# EAGLE library part DUMMY-SOIC16 (library all-chips)
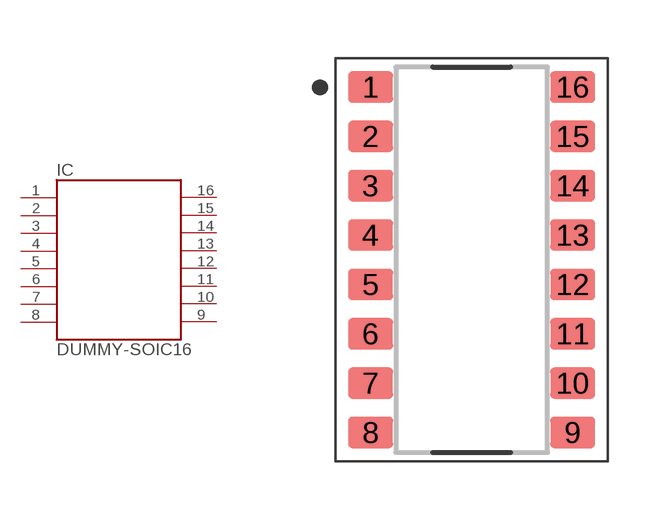
[diagram p1: symbol with the pads of SOIC16_3.90X9.90MM; footprint SOIC16_3.90X9.90MM]

Designator prefix IC

## DUMMY-SOIC16  [SOIC16_3.90X9.90MM]
1  1  pas
2  2  pas
3  3  pas
4  4  pas
5  5  pas
6  6  pas
7  7  pas
8  8  pas
9  9  pas
10  10  pas
11  11  pas
12  12  pas
13  13  pas
14  14  pas
15  15  pas
16  16  pas

## Footprint SOIC16_3.90X9.90MM (pad centres in mm)
https://www.analog.com/media/en/package-pcb-resources/package/pkg_pdf/ltc-legacy-soic/S16%2005-08-1610%20Rev%20G.pdf
smd 1.15 x 0.8: 1 -2.6,4.445; 2 -2.6,3.175; 3 -2.6,1.905; 4 -2.6,0.635; 5 -2.6,-0.635; 6 -2.6,-1.905; 7 -2.6,-3.175; 8 -2.6,-4.445; 9 2.6,-4.445; 10 2.6,-3.175; 11 2.6,-1.905; 12 2.6,-0.635; 13 2.6,0.635; 14 2.6,1.905; 15 2.6,3.175; 16 2.6,4.445